# Altium footprint library PcbLib1.PcbLib: 6 footprints
Each footprint in its own frame and in the unit in brackets; x right, y up, seen from the top. Pads: shape width x height; smd on the part's side, far side on the other; paste and mask are expansions set on the pad; w line width, h text height; cw(c..) or ccw(c..) is an arc to the next point about the centre after c.
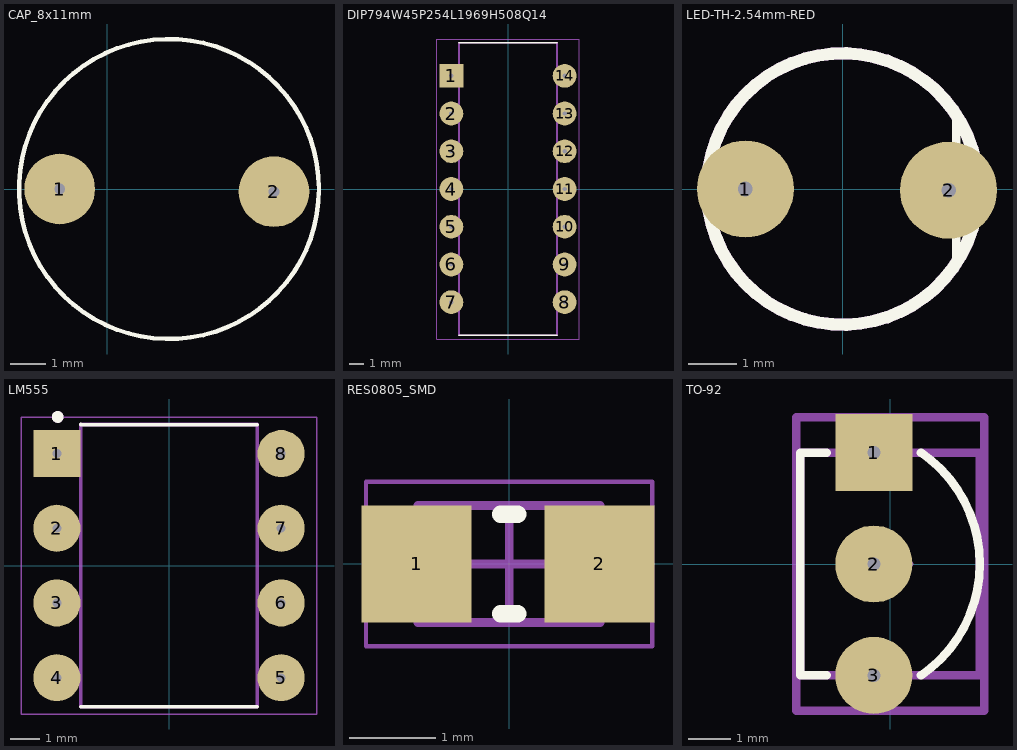
[diagram p0: the footprints below, top view; thin cyan lines are the x and y axes]

## CAP_8x11mm [mm]
pads (2):
  round 2 hole 0.3: 1(-1.346,0) 2(4.724,-0.076)
Top Overlay:
  circle w0.127: c1.75,0 r4.25
3D body "Nichicon MUSE 8x11,5.step": height 12.52, standoff -18.28, extent -2.25,-4 5.75,4

## DIP794W45P254L1969H508Q14 [mm]
pads (14):
  rect 1.6x1.6 hole 0.3: 1(-3.81,7.62)
  round 1.6 hole 0.3: 2(-3.81,5.08) 3(-3.81,2.54) 4(-3.81,0) 5(-3.81,-2.54) 6(-3.81,-5.08) 7(-3.81,-7.62) 8(3.81,-7.62) 9(3.81,-5.08) 10(3.81,-2.54) 11(3.81,0) 12(3.81,2.54) 13(3.81,5.08) 14(3.81,7.62)
Top Overlay:
  circle w0.2: c-3.81,7.62 r0.1
  lines w0.127: -3.3,-9.845 3.3,-9.845 ; -3.3,9.845 3.3,9.845
Mechanical 13:
  circle w0.2: c-3.81,7.62 r0.1
  lines w0.127: -3.3,-9.845 3.3,-9.845 3.3,9.845 -3.3,9.845 -3.3,-9.845
Mechanical 15:
  lines w0.05: -4.785,-10.095 4.785,-10.095 4.785,10.095 -4.785,10.095 -4.785,-10.095
3D body "step_temp.STEP": height 5.1, standoff -3.3, extent -4.375,-10 4.375,10

## LED-TH-2.54mm-RED [mm]
pads (2):
  round 2 hole 0.3: 1(-2.007,0) 2(2.184,-0.025)
Top Overlay:
  circle w0.254: c0,0 r2.8
  lines w0.178: 2.341,-1.495 2.341,1.505
Top Courtyard:
  circle w0.254: c0,0 r2.8
3D body "LED 3mm (Red).step": height 12.31, standoff -10.3, extent -2.724,-2.655 2.724,2.8

## LM555 [mm]
height 5.08
pads (8):
  rect 1.6x1.6 hole 0.3: 1(-3.81,3.81)
  round 1.6 hole 0.3: 2(-3.81,1.27) 3(-3.81,-1.27) 4(-3.81,-3.81) 5(3.81,-3.81) 6(3.81,-1.27) 7(3.81,1.27) 8(3.81,3.81)
Top Overlay:
  circle w0.2: c-3.785,5.055 r0.1
  lines w0.127: -3,-4.795 2.999,-4.795 ; -2.999,4.796 3,4.791
Mechanical 13:
  circle w0.2: c-3.785,5.055 r0.1
  lines w0.127: -2.997,-4.795 2.997,-4.795 2.997,4.795 -2.997,4.795 -2.997,-4.795
Mechanical 15:
  lines w0.05: -5.029,-5.045 5.029,-5.045 5.029,5.045 -5.029,5.045 -5.029,-5.045
3D body "step_temp.STEP": height 5.08, standoff -3, extent -4.153,-4.795 4.153,4.795

## RES0805_SMD [mm]
height 0.6
pads (2):
  rect 1.27x1.35 smd: 1(-1.067,0) 2(1.041,0)
Top Overlay:
  lines w0.2: -0.1,-0.575 0.1,-0.575 ; -0.1,0.575 0.1,0.575
Top Assembly:
  lines w0.1: -1.05,-0.675 -1.05,0.675 1.05,0.675 1.05,-0.675 -1.05,-0.675
Top Courtyard:
  lines w0.05: -1.65,-0.95 -1.65,0.95 1.65,0.95 1.65,-0.95 -1.65,-0.95
  lines w0.1: -0.5,0 0.5,0 ; 0,-0.5 0,0.5
3D body "RES0805_SMD.step": height 0.6, standoff 0, extent -1.05,-0.675 1.05,0.675

## TO-92 [mm]
pads (3):
  rect 1.8x1.8 hole 0.3 paste-2539.97 mask+0: 1(-0.38,2.6)
  round 1.8 hole 0.3 paste-2539.97 mask+0: 2(-0.38,0) 3(-0.38,-2.6)
Top Overlay:
  lines w0.2: -1.48,-2.6 -2.095,-2.6 -2.095,2.6 -1.48,2.6 ; 0.72,-2.6 ccw(c-1.058,0) 0.72,2.6
Top Assembly:
  lines w0.2: -2.195,-3.425 2.195,-3.425 2.195,3.425 -2.195,3.425 -2.195,-3.425
  text ".Designator" at 0,0 h1
Top Courtyard:
  lines w0.2: -2.195,-3.425 2.195,-3.425 2.195,3.425 -2.195,3.425 -2.195,-3.425
Top 3D Body:
  lines w0.2: -2.095,-2.6 2.095,-2.6 2.095,2.6 -2.095,2.6 -2.095,-2.6
Top Component Center:
  lines w0.1: -0.5,0 0.5,0 ; 0,-0.5 0,0.5
3D body "Trans_onsemi_KSA733YTA_eec.STEP": height 0.25, standoff 0, extent -2.195,-3.425 2.195,3.425